# EAGLE library part 4VLX60FF1148 (library xilinx_spartan3_virtex4_and_5)
Xilinx FPGA
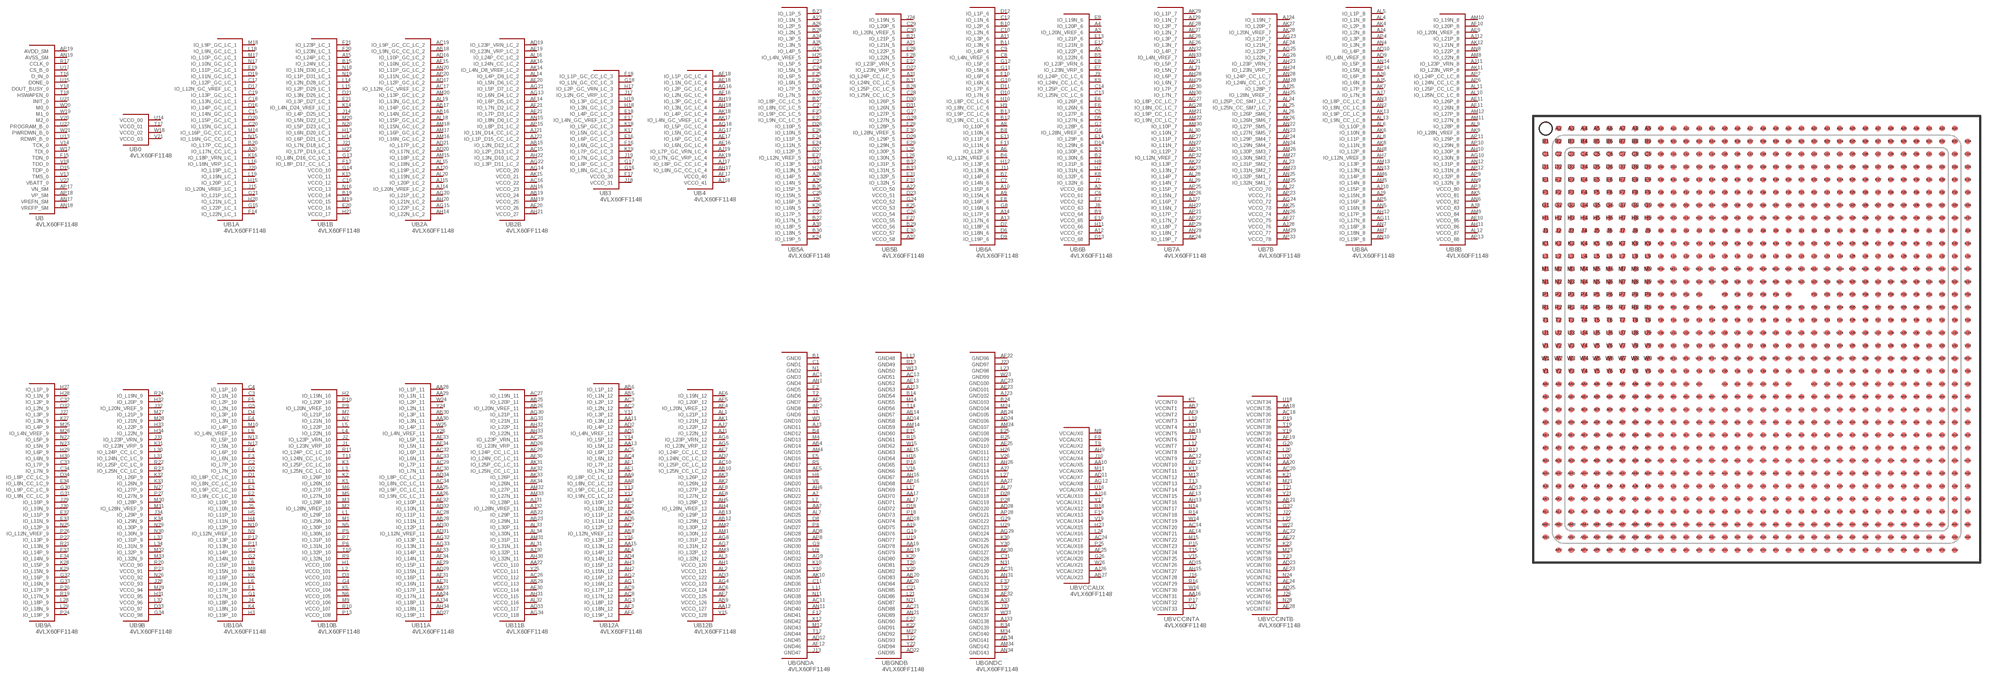
[diagram p81: symbol with the pads of FF1148; footprint FF1148]

Designator prefix U; gates B=4VLX60FF1148_ B0=4VLX60FF1148_0 B1A=4VLX60FF1148_1A B1B=4VLX60FF1148_1B B2A=4VLX60FF1148_2A B2B=4VLX60FF1148_2B B3=4VLX60FF1148_3 B4=4VLX60FF1148_4 B5A=4VLX60FF1148_5A B5B=4VLX60FF1148_5B B6A=4VLX60FF1148_6A B6B=4VLX60FF1148_6B B7A=4VLX60FF1148_7A B7B=4VLX60FF1148_7B B8A=4VLX60FF1148_8A B8B=4VLX60FF1148_8B B9A=4VLX60FF1148_9A B9B=4VLX60FF1148_9B B10A=4VLX60FF1148_10A B10B=4VLX60FF1148_10B B11A=4VLX60FF1148_11A B11B=4VLX60FF1148_11B B12A=4VLX60FF1148_12A B12B=4VLX60FF1148_12B BGNDA=4VLX60FF1148_GNDA BGNDB=4VLX60FF1148_GNDB BGNDC=4VLX60FF1148_GNDC BVCCAUX=4VLX60FF1148_VCCAUX BVCCINTA=4VLX60FF1148_VCCINTA BVCCINTB=4VLX60FF1148_VCCINTB

## 4VLX60FF1148  [FF1148]
A2  B6B:VCCO_60  pas
A3  B6B:IO_L20N_VREF_6
A4  B6B:IO_L20P_6
A5  B6B:IO_L22P_6
A6  B6A:IO_L12P_6
A7  BGNDA:GND22  pas
A8  B6A:IO_L10P_6
A9  B6A:IO_L15N_6
A10  B6A:IO_L15P_6
A11  B6A:IO_L3P_6
A12  B6B:VCCO_67  pas
A13  B6A:IO_L17N_6
A14  B6A:IO_L17P_6
A15  B1B:IO_L24P_LC_1
A19  BGNDB:GND75  pas
A20  B1A:IO_L17N_CC_LC_1
A21  B5B:IO_L21N_5
A22  B5B:VCCO_50  pas
A23  B5A:IO_L1N_5
A24  B5A:IO_L3P_5
A25  B5A:IO_L3N_5
A26  B5A:IO_L2P_5
A27  BGNDC:GND114  pas
A28  B5A:IO_L14P_5
A29  B5A:IO_L14N_5
A30  B5A:IO_L18P_5
A31  B5B:IO_L24P_CC_LC_5
A32  B5B:VCCO_58  pas
A33  BGNDC:GND135  pas
AA7  BGNDA:GND24  pas
AA8  B12A:IO_L8N_CC_LC_12
AA9  B12A:IO_L8P_CC_LC_12
AA10  BVCCAUX:VCCAUX5  pas
AA11  B12A:IO_L3N_12
AA12  B12B:VCCO_127  pas
AA13  B12A:IO_L5N_12
AA15  B12A:IO_L13N_12
AA16  BVCCINTA:VCCINT31  pas
AA17  BGNDB:GND70  pas
AA18  BVCCINTB:VCCINT35  pas
AA19  BGNDB:GND78  pas
AA20  BVCCINTB:VCCINT44  pas
AA22  B11B:VCCO_110  pas
AA23  B11A:IO_L17P_11
AA24  B11A:IO_L17N_11
AA25  B11A:IO_L9P_CC_LC_11
AA26  B11A:IO_L9N_CC_LC_11
AA27  BGNDC:GND116  pas
AA28  B11A:IO_L1P_11
AA29  B11A:IO_L1N_11
AA30  B11A:IO_L3N_11
AB4  BGNDA:GND14  pas
AB5  B12A:IO_L1N_12
AB6  B12A:IO_L1P_12
AB7  BVCCINTA:VCCINT1  pas
AB8  B12A:IO_L12N_VREF_12
AB9  B12B:VCCO_126  pas
AB10  B12B:IO_L25N_CC_LC_12
AB11  BVCCINTA:VCCINT5  pas
AB12  B12B:IO_L29N_12
AB13  B12B:IO_L29P_12
AB14  BGNDB:GND57  pas
AB15  B2B:IO_L2N_D12_LC_2
AB16  B2A:IO_L14N_GC_LC_2
AB17  B2A:IO_L14P_GC_LC_2
AB18  B2A:IO_L9N_GC_CC_LC_2
AB19  B2B:VCCO_24  pas
AB20  BGNDB:GND83  pas
AB21  BVCCINTB:VCCINT50  pas
AB22  B11B:IO_L29P_11
AB23  B11B:IO_L29N_11
AB24  BGNDC:GND105  pas
AB25  B11B:IO_L20P_11
AB26  B11B:IO_L20N_VREF_11
AB27  BVCCAUX:VCCAUX23  pas
AB28  B11A:IO_L11N_11
AB29  B11B:VCCO_113  pas
AB30  B11A:IO_L3P_11
AB34  BGNDC:GND141  pas
AC1  BGNDA:GND3  pas
AC2  B12A:IO_L2N_12
AC3  B12A:IO_L2P_12
AC4  B12A:IO_L6N_12
AC5  B12A:IO_L6P_12
AC6  B12B:VCCO_124  pas
AC7  B12A:IO_L12P_12
AC8  B12A:IO_L17N_12
AC9  B12A:IO_L17P_12
AC10  B12B:IO_L25P_CC_LC_12
AC11  BGNDA:GND39  pas
AC12  BVCCINTA:VCCINT9  pas
AC13  BGNDB:GND51  pas
AC14  BVCCINTA:VCCINT20  pas
AC15  B2B:IO_L2P_D13_LC_2
AC16  B2B:VCCO_22  pas
AC17  B2A:IO_L12N_GC_VREF_LC_2
AC18  BVCCINTB:VCCINT36  pas
AC19  B2A:IO_L9P_GC_CC_LC_2
AC20  BVCCINTB:VCCINT45  pas
AC21  BGNDB:GND88  pas
AC22  BVCCINTB:VCCINT55  pas
AC23  BGNDC:GND100  pas
AC24  BVCCAUX:VCCAUX17  pas
AC25  B11B:IO_L23P_VRN_11
AC26  B11B:VCCO_112  pas
AC27  B11B:IO_L19N_11
AC28  B11A:IO_L11P_11
AC29  B11A:IO_L7P_11
AC30  B11A:IO_L7N_11
AC31  BGNDC:GND130  pas
AC32  B11A:IO_L6P_11
AC33  B11A:IO_L6N_11
AC34  B11A:IO_L8N_CC_LC_11
AD1  B12A:IO_L4N_VREF_12
AD2  B12A:IO_L4P_12
AD3  B12B:VCCO_122  pas
AD4  B12A:IO_L14N_12
AD5  B12A:IO_L11N_12
AD6  B12A:IO_L11P_12
AD7  B12B:IO_L24N_CC_LC_12
AD8  BGNDA:GND28  pas
AD9  B8A:IO_L4N_VREF_8
AD10  B8A:IO_L4P_8
AD11  BVCCAUX:VCCAUX7  pas
AD12  BGNDA:GND45  pas
AD13  BVCCINTA:VCCINT14  pas
AD14  BGNDB:GND58  pas
AD15  BVCCINTA:VCCINT26  pas
AD16  B2A:IO_L10P_GC_LC_2
AD17  B2A:IO_L12P_GC_LC_2
AD18  BGNDB:GND74  pas
AD19  B2B:IO_L23P_VRN_LC_2
AD20  B2A:IO_L17N_LC_2
AD21  B2A:IO_L17P_LC_2
AD22  BGNDB:GND95  pas
AD23  BVCCINTB:VCCINT60  pas
AD24  BGNDC:GND106  pas
AD25  BVCCINTB:VCCINT64  pas
AD26  B11B:IO_L23N_VRP_11
AD27  B11A:IO_L19P_11
AD28  BGNDC:GND120  pas
AD29  B11A:IO_L15N_11
AD30  B11A:IO_L12P_11
AD31  B11A:IO_L12N_VREF_11
AD32  B11A:IO_L10N_11
AD33  B11B:VCCO_117  pas
AD34  B11A:IO_L8P_CC_LC_11
AE1  B12A:IO_L7N_12
AE2  B12A:IO_L10N_12
AE3  B12A:IO_L10P_12
AE4  B12A:IO_L14P_12
AE5  BGNDA:GND18  pas
AE6  B12B:IO_L19N_12
AE7  B12B:IO_L24P_CC_LC_12
AE8  B12B:IO_L27N_12
AE9  B8B:IO_L20N_VREF_8
AE10  B8B:VCCO_85  pas
AE11  B8B:IO_L26P_8
AE12  BVCCINTA:VCCINT10  pas
AE13  BGNDB:GND52  pas
AE14  BVCCINTA:VCCINT21  pas
AE15  BGNDB:GND63  pas
AE16  B4:IO_L6N_GC_LC_4
AE17  B4:IO_L6P_GC_LC_4
AE18  B4:IO_L1N_GC_LC_4
AE19  B2B:IO_L23N_VRP_LC_2
AE20  B2B:VCCO_26  pas
AE21  B2B:IO_L7P_D3_LC_2
AE22  BVCCINTB:VCCINT56  pas
AE23  BGNDC:GND101  pas
AE24  BVCCINTB:VCCINT63  pas
AE25  BGNDC:GND110  pas
AE26  B7A:IO_L3N_7
AE27  B7A:IO_L2N_7
AE28  BVCCINTB:VCCINT67  pas
AE29  B11A:IO_L15P_11
AE30  B11B:VCCO_114  pas
AE31  B11A:IO_L16N_11
AE32  B11A:IO_L10P_11
AE33  B11A:IO_L5P_11
AE34  B11A:IO_L5N_11
AF1  B12A:IO_L7P_12
AF2  BGNDA:GND7  pas
AF3  B12A:IO_L18N_12
AF4  B12B:IO_L20N_VREF_12
AF5  B12B:IO_L20P_12
AF6  B12A:IO_L19P_12
AF7  B12B:VCCO_125  pas
AF8  B12B:IO_L27P_12
AF9  BVCCINTA:VCCINT2  pas
AF10  B8B:IO_L20P_8
AF11  B8B:IO_L26N_8
AF12  BGNDA:GND46  pas
AF13  BVCCINTA:VCCINT15  pas
AF14  B2B:IO_L6P_D5_LC_2
AF15  B2A:IO_L10N_GC_LC_2
AF16  B4:IO_L2N_GC_LC_4
AF17  B4:VCCO_40  pas
AF18  B4:IO_L1P_GC_LC_4
AF19  BVCCINTB:VCCINT40  pas
AF20  B2B:IO_L5N_D6_LC_2
AF21  B2B:IO_L7N_D2_LC_2
AF22  BGNDC:GND96  pas
AF23  BVCCINTB:VCCINT61  pas
AF24  B7B:IO_L21N_7
AF25  BVCCAUX:VCCAUX19  pas
AF26  B7A:IO_L3P_7
AF27  B7B:VCCO_75  pas
AF28  B7A:IO_L2P_7
AF29  B11B:IO_L24P_CC_LC_11
AF30  B11B:IO_L24N_CC_LC_11
AF31  B11A:IO_L16P_11
AF32  BGNDC:GND134  pas
AF33  B11A:IO_L14P_11
AF34  B11A:IO_L14N_11
AG1  B12A:IO_L16N_12
AG2  B12A:IO_L16P_12
AG3  B12A:IO_L18P_12
AG4  B12B:VCCO_123  pas
AG5  B12B:IO_L23N_VRP_12
AG6  B12B:IO_L23P_VRN_12
AG7  B12B:IO_L31N_12
AG8  B12B:IO_L31P_12
AG9  BGNDA:GND32  pas
AG10  B8B:IO_L30N_8
AG11  B8A:IO_L17N_8
AG12  BVCCAUX:VCCAUX8  pas
AG13  B2B:IO_L6N_D4_LC_2
AG14  B2B:VCCO_20  pas
AG15  B2A:IO_L22P_LC_2
AG16  B4:IO_L2P_GC_LC_4
AG17  B4:IO_L5N_GC_LC_4
AG18  B4:IO_L5P_GC_LC_4
AG19  BGNDB:GND79  pas
AG20  B2A:IO_L21P_LC_2
AG21  B2B:IO_L5P_D7_LC_2
AG22  B2B:IO_L3P_D11_LC_2
AG23  B7B:IO_L21P_7
AG24  B7B:VCCO_72  pas
AG25  B7B:IO_L22P_7
AG26  B7B:IO_L22N_7
AG27  B7A:IO_L8P_CC_LC_7
AG28  B7A:IO_L8N_CC_LC_7
AG29  BGNDC:GND124  pas
AG30  B11B:IO_L21P_11
AG31  B11B:IO_L21N_11
AG32  B11A:IO_L13P_11
AG33  B11A:IO_L13N_11
AG34  B11B:VCCO_118  pas
AH1  B12B:VCCO_120  pas
AH2  B12A:IO_L15N_12
AH3  B12A:IO_L15P_12
AH4  B12B:IO_L28N_VREF_12
AH5  B12B:IO_L28P_12
AH6  BGNDA:GND21  pas
AH7  B8A:IO_L12N_VREF_8
AH8  B8A:IO_L12P_8
AH9  BVCCAUX:VCCAUX3  pas
AH10  B8B:IO_L30P_8
AH11  B8B:VCCO_86  pas
AH12  B8A:IO_L17P_8
AH13  BVCCINTA:VCCINT16  pas
AH14  B2A:IO_L22N_LC_2
AH15  BVCCINTA:VCCINT27  pas
AH16  BGNDB:GND67  pas
AH17  B4:IO_L8N_GC_CC_LC_4
AH18  B4:IO_L3N_GC_LC_4
AH19  B4:IO_L3P_GC_LC_4
AH20  B2A:IO_L21N_LC_2
AH21  B2B:VCCO_27  pas
AH22  B2B:IO_L3N_D10_LC_2
AH23  B7B:IO_L23P_VRN_7
AH24  B7B:IO_L23N_VRP_7
AH25  B7B:IO_L28N_VREF_7
AH26  BGNDC:GND113  pas
AH27  B7A:IO_L16N_7
AH28  B7A:IO_L6P_7
AH29  B7A:IO_L6N_7
AH30  B11B:IO_L32N_11
AH31  B11B:VCCO_115  pas
AH32  B11B:IO_L22P_11
AH33  B11B:IO_L22N_11
AH34  B11A:IO_L18N_11
AJ1  B12B:IO_L22N_12
AJ2  B12B:IO_L22P_12
AJ3  BGNDA:GND11  pas
AJ4  B8A:IO_L2N_8
AJ5  B8A:IO_L6N_8
AJ6  B8A:IO_L6P_8
AJ7  B8A:IO_L7N_8
AJ8  B8B:VCCO_83  pas
AJ9  B8A:IO_L15N_8
AJ10  B8A:IO_L15P_8
AJ11  B8B:IO_L23P_VRN_8
AJ12  B8B:IO_L21P_8
AJ13  BGNDB:GND53  pas
AJ14  B2A:IO_L20N_VREF_LC_2
AJ15  B2A:IO_L20P_LC_2
AJ16  BVCCAUX:VCCAUX10  pas
AJ17  B4:IO_L8P_GC_CC_LC_4
AJ18  B4:VCCO_41  pas
AJ19  B4:IO_L7P_GC_VRN_LC_4
AJ20  B2A:IO_L19P_LC_2
AJ21  B2B:IO_L1N_D14_CC_LC_2
AJ22  B2B:IO_L1P_D15_CC_LC_2
AJ23  BGNDC:GND102  pas
AJ24  B7B:IO_L19N_7
AJ25  B7B:IO_L28P_7
AJ26  BVCCAUX:VCCAUX22  pas
AJ27  B7A:IO_L16P_7
AJ28  B7B:VCCO_76  pas
AJ29  B7A:IO_L1N_7
AJ30  B11B:IO_L32P_11
AJ31  B11B:IO_L28P_11
AJ32  B11B:IO_L28N_VREF_11
AJ33  BGNDC:GND138  pas
AJ34  B11A:IO_L18P_11
AK1  B12B:IO_L21N_12
AK2  B12B:IO_L26N_12
AK3  B12B:IO_L26P_12
AK4  B8A:IO_L2P_8
AK5  B8B:VCCO_81  pas
AK6  B8A:IO_L10N_8
AK7  B8A:IO_L7P_8
AK8  B8A:IO_L11N_8
AK9  B8B:IO_L28N_VREF_8
AK10  BGNDA:GND35  pas
AK11  B8B:IO_L23N_VRP_8
AK12  B8B:IO_L21N_8
AK13  B8A:IO_L9P_CC_LC_8
AK14  B2B:IO_L4N_D8_VREF_LC_2
AK15  B2B:VCCO_21  pas
AK16  B2B:IO_L24N_CC_LC_2
AK17  B4:IO_L4N_GC_VREF_LC_4
AK18  B4:IO_L4P_GC_LC_4
AK19  B4:IO_L7N_GC_VRP_LC_4
AK20  BGNDB:GND84  pas
AK21  B7A:IO_L5P_7
AK22  B7A:IO_L13P_7
AK23  B7A:IO_L13N_7
AK24  B7A:IO_L19P_7
AK25  B7B:VCCO_73  pas
AK26  B7B:IO_L26N_SM6_7
AK27  B7B:IO_L20P_7
AK28  B7B:IO_L20N_VREF_7
AK29  B7A:IO_L1P_7
AK30  BGNDC:GND127  pas
AK31  B11B:IO_L25P_CC_LC_11
AK32  B11B:IO_L25N_CC_LC_11
AK33  B11B:IO_L26P_11
AK34  B11B:IO_L26N_11
AL1  B12B:IO_L21P_12
AL2  B12B:VCCO_121  pas
AL3  B12B:IO_L32N_12
AL4  B8A:IO_L1N_8
AL5  B8A:IO_L1P_8
AL6  B8A:IO_L10P_8
AL7  BGNDA:GND25  pas
AL8  B8A:IO_L11P_8
AL9  B8B:IO_L28P_8
AL10  B8B:IO_L25N_CC_LC_8
AL11  B8B:IO_L25P_CC_LC_8
AL12  B8B:VCCO_87  pas
AL13  B8A:IO_L9N_CC_LC_8
AL14  B2B:IO_L4P_D9_LC_2
AL15  B2A:IO_L18N_LC_2
AL16  B2B:IO_L24P_CC_LC_2
AL17  BGNDB:GND71  pas
AL18  B2A:IO_L15P_GC_LC_2
AL19  B2A:IO_L13N_GC_LC_2
AL20  B2A:IO_L19N_LC_2
AL21  B7A:IO_L5N_7
AL22  B7B:VCCO_70  pas
AL23  B7B:IO_L31P_SM2_7
AL24  B7B:IO_L25P_CC_SM7_LC_7
AL25  B7B:IO_L25N_CC_SM7_LC_7
AL26  B7B:IO_L26P_SM6_7
AL27  BGNDC:GND117  pas
AL28  B7A:IO_L14P_7
AL29  B7A:IO_L14N_7
AL30  B7A:IO_L10N_7
AL31  B11B:IO_L31N_11
AL32  B11B:VCCO_116  pas
AL33  B11B:IO_L30P_11
AL34  B11B:IO_L30N_11
AM1  B12B:IO_L30N_12
AM2  B12B:IO_L30P_12
AM3  B12B:IO_L32P_12
AM4  BGNDA:GND15  pas
AM5  B8A:IO_L14N_8
AM6  B8A:IO_L14P_8
AM7  B8A:IO_L18N_8
AM8  B8B:IO_L22N_8
AM9  B8B:VCCO_84  pas
AM10  B8B:IO_L19N_8
AM11  B8B:IO_L27N_8
AM12  B8B:IO_L27P_8
AM13  B8A:IO_L13P_8
AM14  BGNDB:GND59  pas
AM15  B2A:IO_L18P_LC_2
AM16  B2A:IO_L16N_GC_LC_2
AM17  B2A:IO_L16P_GC_LC_2
AM18  B2A:IO_L15N_GC_LC_2
AM19  B2B:VCCO_25  pas
AM20  B2A:IO_L13P_GC_LC_2
AM21  B7A:IO_L9P_CC_LC_7
AM22  B7A:IO_L9N_CC_LC_7
AM23  B7B:IO_L31N_SM2_7
AM24  BGNDC:GND107  pas
AM25  B7B:IO_L32N_SM1_7
AM26  B7B:IO_L30P_SM3_7
AM27  B7B:IO_L30N_SM3_7
AM28  B7B:IO_L24N_CC_LC_7
AM29  B7B:VCCO_77  pas
AM30  B7A:IO_L10P_7
AM31  B11B:IO_L31P_11
AM32  B11B:IO_L27P_11
AM33  B11B:IO_L27N_11
AM34  BGNDC:GND142  pas
AN1  BGNDA:GND4  pas
AN2  B8A:IO_L8N_CC_LC_8
AN3  B8A:IO_L8P_CC_LC_8
AN4  B8A:IO_L3N_8
AN5  B8A:IO_L16N_8
AN6  B8B:VCCO_82  pas
AN7  B8A:IO_L18P_8
AN8  B8B:IO_L22P_8
AN9  B8B:IO_L32N_8
AN10  B8A:IO_L19P_8
AN11  BGNDA:GND40  pas
AN12  B8B:IO_L31P_8
AN13  B8A:IO_L13N_8
AN14  B8A:IO_L5P_8
AN15  B2B:IO_L8N_D0_LC_2
AN16  B2B:VCCO_23  pas
AN17  B:VREFN_SM
AN18  B:VREFP_SM
AN19  B:AVSS_SM
AN20  B2A:IO_L11P_GC_LC_2
AN21  BGNDB:GND89  pas
AN22  B7B:IO_L27P_SM5_7
AN23  B7B:IO_L27N_SM5_7
AN24  B7B:IO_L29N_SM4_7
AN25  B7B:IO_L32P_SM1_7
AN26  B7B:VCCO_74  pas
AN27  B7A:IO_L11N_7
AN28  B7B:IO_L24P_CC_LC_7
AN29  B7A:IO_L18N_7
AN30  B7A:IO_L7N_7
AN31  BGNDC:GND131  pas
AN32  B7A:IO_L4P_7
AN33  B7A:IO_L4N_VREF_7
AN34  BGNDC:GND143  pas
AP2  BGNDA:GND8  pas
AP3  B8B:VCCO_80  pas
AP4  B8A:IO_L3P_8
AP5  B8A:IO_L16P_8
AP6  B8B:IO_L24N_CC_LC_8
AP7  B8B:IO_L24P_CC_LC_8
AP8  BGNDA:GND29  pas
AP9  B8B:IO_L32P_8
AP10  B8B:IO_L29N_8
AP11  B8B:IO_L29P_8
AP12  B8B:IO_L31N_8
AP13  B8B:VCCO_88  pas
AP14  B8A:IO_L5N_8
AP15  B2B:IO_L8P_D1_LC_2
AP16  BGNDB:GND68  pas
AP17  B:VN_SM
AP18  B:VP_SM
AP19  B:AVDD_SM
AP20  B2A:IO_L11N_GC_LC_2
AP21  B7A:IO_L17P_7
AP22  B7A:IO_L17N_7
AP23  B7B:VCCO_71  pas
AP24  B7B:IO_L29P_SM4_7
AP25  B7A:IO_L15P_7
AP26  B7A:IO_L15N_7
AP27  B7A:IO_L11P_7
AP28  BGNDC:GND121  pas
AP29  B7A:IO_L18P_7
AP30  B7A:IO_L7P_7
AP31  B7A:IO_L12P_7
AP32  B7A:IO_L12N_VREF_7
AP33  B7B:VCCO_78  pas
B1  BGNDA:GND0  pas
B2  B6B:IO_L30N_6
B3  B6B:IO_L30P_6
B4  BGNDA:GND12  pas
B5  B6B:IO_L22N_6
B6  B6A:IO_L12N_VREF_6
B7  B6A:IO_L14P_6
B8  B6A:IO_L10N_6
B9  B6B:VCCO_64  pas
B10  B6A:IO_L2P_6
B11  B6A:IO_L3N_6
B12  B6A:IO_L9N_CC_LC_6
B13  B6A:IO_L9P_CC_LC_6
B14  BGNDB:GND54  pas
B15  B1B:IO_L24N_LC_1
B19  B1B:VCCO_14  pas
B20  B1A:IO_L17P_CC_LC_1
B21  B5B:IO_L21P_5
B22  B5A:IO_L17N_5
B23  B5A:IO_L1P_5
B24  BGNDC:GND103  pas
B25  B5A:IO_L15P_5
B26  B5A:IO_L2N_5
B27  B5A:IO_L8P_CC_LC_5
B28  B5B:IO_L25P_CC_LC_5
B29  B5B:VCCO_56  pas
B30  B5A:IO_L18N_5
B31  B5B:IO_L24N_CC_LC_5
B32  B5B:IO_L31P_5
B33  B5B:IO_L31N_5
B34  BGNDC:GND139  pas
C1  BGNDA:GND1  pas
C2  B10A:IO_L7P_10
C3  B10A:IO_L1N_10
C4  B10A:IO_L1P_10
C5  B6B:IO_L27P_6
C6  B6B:VCCO_61  pas
C7  B6A:IO_L14N_6
C8  B6A:IO_L4N_VREF_6
C9  B6A:IO_L4P_6
C10  B6A:IO_L2N_6
C11  BGNDA:GND36  pas
C12  B6A:IO_L1N_6
C13  B6B:IO_L25N_CC_LC_6
C14  B6B:IO_L25P_CC_LC_6
C15  B1A:IO_L14N_GC_LC_1
C16  B1B:VCCO_12  pas
C17  B1A:IO_L12P_GC_LC_1
C18  B1A:IO_L13N_GC_LC_1
C19  B1A:IO_L13P_GC_LC_1
C20  B1A:IO_L15N_GC_LC_1
C21  BGNDB:GND85  pas
C22  B5A:IO_L17P_5
C23  B5A:IO_L5P_5
C24  B5A:IO_L5N_5
C25  B5A:IO_L15N_5
C26  B5B:VCCO_54  pas
C27  B5A:IO_L8N_CC_LC_5
C28  B5B:IO_L25N_CC_LC_5
C29  B5B:IO_L20P_5
C30  B5B:IO_L20N_VREF_5
C31  BGNDC:GND128  pas
C32  B9A:IO_L2P_9
C33  B9A:IO_L7P_9
C34  B9A:IO_L7N_9
D1  B10A:IO_L8P_CC_LC_10
D2  B10A:IO_L7N_10
D3  B10B:VCCO_102  pas
D4  B10A:IO_L3P_10
D5  B6B:IO_L27N_6
D6  B6A:IO_L18N_6
D7  B6A:IO_L18P_6
D8  BGNDA:GND26  pas
D9  B6A:IO_L19P_6
D10  B6A:IO_L7N_6
D11  B6A:IO_L7P_6
D12  B6A:IO_L1P_6
D13  B6B:VCCO_68  pas
D14  B6B:IO_L29N_6
D15  B:TDP_0
D16  B1A:IO_L14P_GC_LC_1
D17  B1A:IO_L12N_GC_VREF_LC_1
D18  BGNDB:GND72  pas
D19  B1A:IO_L11N_GC_LC_1
D20  B1A:IO_L15P_GC_LC_1
D21  B1B:IO_L3N_D26_LC_1
D22  B5B:IO_L23N_VRP_5
D23  B5B:VCCO_51  pas
D24  B5A:IO_L7P_5
D25  B5A:IO_L7N_5
D26  B5A:IO_L10P_5
D27  B5A:IO_L12P_5
D28  BGNDC:GND118  pas
D29  B5B:IO_L29P_5
D30  B5B:IO_L26P_5
D31  B5B:IO_L26N_5
D32  B9A:IO_L2N_9
D33  B9B:VCCO_97  pas
D34  B9A:IO_L8P_CC_LC_9
E1  B10A:IO_L8N_CC_LC_10
E2  B10A:IO_L9N_CC_LC_10
E3  B10A:IO_L9P_CC_LC_10
E4  B10A:IO_L3N_10
E5  BGNDA:GND16  pas
E6  B6B:IO_L26P_6
E7  B6B:IO_L23N_VRP_6
E8  B6B:IO_L23P_VRN_6
E9  B6B:IO_L19N_6
E10  B6B:VCCO_65  pas
E11  B6A:IO_L11P_6
E12  B6B:IO_L21N_6
E13  B6B:IO_L21P_6
E14  B6B:IO_L29P_6
E15  BGNDB:GND60  pas
E16  B3:IO_L6P_GC_LC_3
E17  B3:IO_L4N_GC_VREF_LC_3
E18  B3:IO_L4P_GC_LC_3
E19  B1A:IO_L11P_GC_LC_1
E20  B1B:VCCO_16  pas
E21  B1B:IO_L3P_D27_LC_1
E22  B5B:IO_L23P_VRN_5
E23  B5A:IO_L9N_CC_LC_5
E24  B5A:IO_L11N_5
E25  BGNDC:GND108  pas
E26  B5A:IO_L10N_5
E27  B5A:IO_L12N_VREF_5
E28  B5B:IO_L22P_5
E29  B5B:IO_L29N_5
E30  B5B:VCCO_57  pas
E31  B5B:IO_L32P_5
E32  B9A:IO_L11P_9
E33  B9A:IO_L11N_9
E34  B9A:IO_L8N_CC_LC_9
F1  B10A:IO_L17P_10
F2  BGNDA:GND5  pas
F3  B10A:IO_L6N_10
F4  B10A:IO_L6P_10
F5  B10A:IO_L2P_10
F6  B6B:IO_L26N_6
F7  B6B:VCCO_62  pas
F8  B6A:IO_L16P_6
F9  BVCCAUX:VCCAUX1  pas
F10  B6A:IO_L6P_6
F11  B6A:IO_L11N_6
F12  BGNDA:GND41  pas
F13  B1B:IO_L8P_D17_CC_LC_1
F14  B1A:IO_L22N_LC_1
F15  B:TDN_0
F16  B3:IO_L6N_GC_LC_3
F17  B3:VCCO_30  pas
F18  B3:IO_L1P_GC_CC_LC_3
F19  BVCCAUX:VCCAUX13  pas
F20  B1B:IO_L23N_LC_1
F21  B1B:IO_L23P_LC_1
F22  BGNDB:GND90  pas
F23  B5A:IO_L9P_CC_LC_5
F24  B5A:IO_L11P_5
F25  B5A:IO_L6P_5
F26  B5A:IO_L6N_5
F27  B5B:VCCO_55  pas
F28  B5B:IO_L22N_5
F29  B5B:IO_L28P_5
F30  B5B:IO_L28N_VREF_5
F31  B5B:IO_L32N_5
F32  BGNDC:GND132  pas
F33  B9A:IO_L14P_9
F34  B9A:IO_L14N_9
G1  B10A:IO_L17N_10
G2  B10A:IO_L14N_10
G3  B10A:IO_L14P_10
G4  B10B:VCCO_103  pas
G5  B10A:IO_L2N_10
G6  B6B:IO_L28N_VREF_6
G7  B6B:IO_L28P_6
G8  B6A:IO_L16N_6
G9  BGNDA:GND30  pas
G10  B6A:IO_L6N_6
G11  B6A:IO_L5N_6
G12  B6A:IO_L5P_6
G13  B1B:IO_L8N_D16_CC_LC_1
G14  B1B:VCCO_10  pas
G15  B1A:IO_L22P_LC_1
G16  B3:IO_L8N_GC_LC_3
G17  B3:IO_L8P_GC_LC_3
G18  B3:IO_L1N_GC_CC_LC_3
G19  BGNDB:GND76  pas
G20  BVCCINTB:VCCINT41  pas
G21  B1A:IO_L21P_LC_1
G22  BVCCINTB:VCCINT51  pas
G23  B5A:IO_L13P_5
G24  B5B:VCCO_52  pas
G25  B5A:IO_L4P_5
G26  BVCCAUX:VCCAUX20  pas
G27  B5B:IO_L27P_5
G28  B5B:IO_L27N_5
G29  BGNDC:GND122  pas
G30  B9A:IO_L9P_CC_LC_9
G31  B9A:IO_L9N_CC_LC_9
G32  B9A:IO_L16P_9
G33  B9A:IO_L16N_9
G34  B9B:VCCO_98  pas
H1  B10B:VCCO_100  pas
H2  B10B:IO_L19N_10
H3  B10A:IO_L19P_10
H4  B10A:IO_L11N_10
H5  B10A:IO_L11P_10
H6  BGNDA:GND19  pas
H7  B6B:IO_L31N_6
H8  B6B:IO_L31P_6
H9  B6A:IO_L8N_CC_LC_6
H10  B6A:IO_L8P_CC_LC_6
H11  B6B:VCCO_66  pas
H12  B6A:IO_L13P_6
H13  B1B:IO_L6N_D20_LC_1
H14  B1B:IO_L6P_D21_LC_1
H15  B1A:IO_L20P_LC_1
H16  BGNDB:GND64  pas
H17  B3:IO_L2P_GC_VRN_LC_3
H18  B3:IO_L3N_GC_LC_3
H19  B3:IO_L3P_GC_LC_3
H20  B1A:IO_L21N_LC_1
H21  B1B:VCCO_17  pas
H22  B1B:IO_L7P_D19_LC_1
H23  BVCCAUX:VCCAUX15  pas
H24  B5A:IO_L13N_5
H25  B5A:IO_L4N_VREF_5
H26  BGNDC:GND111  pas
H27  B9A:IO_L1P_9
H28  B9A:IO_L1N_9
H29  B9A:IO_L6P_9
H30  B9A:IO_L6N_9
H31  B9B:VCCO_95  pas
H32  B9B:IO_L20P_9
H33  B9B:IO_L22P_9
H34  B9B:IO_L22N_9
J1  B10B:IO_L23N_VRP_10
J2  B10B:IO_L23P_VRN_10
J3  BGNDA:GND9  pas
J4  B10A:IO_L18P_10
J5  B10A:IO_L10N_10
J6  B10A:IO_L10P_10
J7  B6B:IO_L32N_6
J8  B6B:VCCO_63  pas
J9  B6B:IO_L24P_CC_LC_6
J10  BVCCAUX:VCCAUX4  pas
J11  B6A:IO_L13N_6
J12  BVCCINTA:VCCINT6  pas
J13  BGNDA:GND47  pas
J14  B1B:IO_L4P_D25_LC_1
J15  B1A:IO_L20N_VREF_LC_1
J16  BVCCINTA:VCCINT28  pas
J17  B3:IO_L2N_GC_VRP_LC_3
J18  B3:VCCO_31  pas
J19  B3:IO_L7N_GC_LC_3
J20  B1A:IO_L19P_LC_1
J21  B1B:IO_L7N_D18_LC_1
J22  BVCCINTB:VCCINT52  pas
J23  BGNDC:GND97  pas
J24  B5B:IO_L19N_5
J25  B5A:IO_L16P_5
J26  BVCCINTB:VCCINT65  pas
J27  B9A:IO_L3P_9
J28  B9B:VCCO_93  pas
J29  B9A:IO_L10P_9
J30  B9A:IO_L10N_9
J31  B9B:IO_L23P_VRN_9
J32  B9B:IO_L20N_VREF_9
J33  BGNDC:GND136  pas
J34  B9B:IO_L29P_9
K1  B10B:IO_L26N_10
K2  B10B:IO_L26P_10
K3  B10B:IO_L25P_CC_LC_10
K4  B10A:IO_L18N_10
K5  B10B:VCCO_104  pas
K6  B10A:IO_L16P_10
K7  BVCCINTA:VCCINT0  pas
K8  B6B:IO_L32P_6
K9  B6B:IO_L24N_CC_LC_6
K10  BGNDA:GND33  pas
K11  BVCCINTA:VCCINT4  pas
K12  BGNDA:GND42  pas
K13  BVCCINTA:VCCINT11  pas
K14  B1B:IO_L4N_D24_VREF_LC_1
K15  B1B:VCCO_11  pas
K16  B1A:IO_L18P_VRN_LC_1
K17  B3:IO_L5N_GC_LC_3
K18  B3:IO_L5P_GC_LC_3
K19  B3:IO_L7P_GC_LC_3
K20  BGNDB:GND80  pas
K21  BVCCINTB:VCCINT46  pas
K22  BGNDB:GND91  pas
K23  BVCCINTB:VCCINT57  pas
K24  B5A:IO_L19P_5
K25  B5B:VCCO_53  pas
K26  B5A:IO_L16N_5
K27  B9A:IO_L3N_9
K28  B9A:IO_L15P_9
K29  B9A:IO_L15N_9
K30  BGNDC:GND125  pas
K31  B9B:IO_L23N_VRP_9
K32  B9B:IO_L26P_9
K33  B9B:IO_L26N_9
K34  B9B:IO_L29N_9
L1  B10B:IO_L29P_10
L2  B10B:VCCO_101  pas
L3  B10B:IO_L25N_CC_LC_10
L4  B10B:IO_L22N_10
L5  B10B:IO_L22P_10
L6  B10A:IO_L16N_10
L7  BGNDA:GND23  pas
L8  B10A:IO_L15P_10
L9  B10A:IO_L4N_VREF_10
L10  BVCCINTA:VCCINT3  pas
L11  BGNDA:GND37  pas
L12  BVCCINTA:VCCINT7  pas
L13  BGNDB:GND48  pas
L14  B1B:IO_L2N_D28_LC_1
L15  B1B:IO_L2P_D29_LC_1
L16  B1A:IO_L18N_VRP_LC_1
L17  BGNDB:GND69  pas
L18  B1A:IO_L9N_GC_LC_1
L19  B1A:IO_L19N_LC_1
L20  BVCCINTB:VCCINT42  pas
L21  BGNDB:GND86  pas
L22  BVCCINTB:VCCINT53  pas
L23  BGNDC:GND98  pas
L24  BVCCAUX:VCCAUX16  pas
L25  B5B:IO_L30P_5
L26  B5B:IO_L30N_5
L27  BGNDC:GND115  pas
L28  B9A:IO_L18P_9
L29  B9A:IO_L18N_9
L30  B9B:IO_L24P_CC_LC_9
L31  B9B:IO_L24N_CC_LC_9
L32  B9B:VCCO_96  pas
L33  B9B:IO_L31P_9
L34  B9B:IO_L31N_9
M1  B10B:IO_L29N_10
M2  B10B:IO_L28N_VREF_10
M3  B10B:IO_L28P_10
M4  BGNDA:GND13  pas
M5  B10B:IO_L27N_10
M6  B10B:IO_L27P_10
M7  B10B:IO_L21P_10
M8  B10A:IO_L15N_10
M9  B10B:VCCO_106  pas
M10  B10A:IO_L4P_10
M11  BVCCAUX:VCCAUX6  pas
M12  BGNDA:GND43  pas
M13  BVCCINTA:VCCINT12  pas
M14  BGNDB:GND55  pas
M15  BVCCINTA:VCCINT22  pas
M16  B1A:IO_L16P_GC_CC_LC_1
M17  B1A:IO_L10P_GC_LC_1
M18  B1A:IO_L9P_GC_LC_1
M19  B1B:VCCO_15  pas
M20  B1B:IO_L5N_D22_LC_1
M21  BVCCINTB:VCCINT47  pas
M22  BGNDB:GND92  pas
M23  BVCCINTB:VCCINT58  pas
M24  BGNDC:GND104  pas
M25  B9A:IO_L4P_9
M26  B9A:IO_L4N_VREF_9
M27  B9B:IO_L21P_9
M28  B9B:IO_L21N_9
M29  B9B:VCCO_94  pas
M30  B9B:IO_L28P_9
M31  B9B:IO_L28N_VREF_9
M32  B9B:IO_L32P_9
M33  B9B:IO_L32N_9
M34  BGNDC:GND140  pas
N1  BGNDA:GND2  pas
N5  B10B:IO_L30P_10
N6  B10B:VCCO_105  pas
N7  B10B:IO_L21N_10
N8  BVCCAUX:VCCAUX0  pas
N9  B10A:IO_L12N_VREF_10
N10  B10A:IO_L12P_10
N11  BGNDA:GND38  pas
N12  B10A:IO_L5N_10
N13  B10A:IO_L5P_10
N14  BVCCINTA:VCCINT17  pas
N15  B1A:IO_L16N_GC_CC_LC_1
N16  B1B:VCCO_13  pas
N17  B1A:IO_L10N_GC_LC_1
N18  B1B:IO_L1N_D30_LC_1
N19  B1B:IO_L1P_D31_LC_1
N20  B1B:IO_L5P_D23_LC_1
N21  BGNDB:GND87  pas
N22  B9A:IO_L5P_9
N23  B9A:IO_L5N_9
N24  BVCCINTB:VCCINT62  pas
N25  B9A:IO_L12P_9
N26  B9B:VCCO_92  pas
N27  B9B:IO_L27P_9
N28  BVCCINTB:VCCINT66  pas
N29  B9B:IO_L30P_9
N30  B9B:IO_L30N_9
N31  BGNDC:GND129  pas
P5  B10B:IO_L30N_10
P6  B10B:IO_L31N_10
P7  B10B:IO_L31P_10
P8  BGNDA:GND27  pas
P9  B10B:IO_L20N_VREF_10
P10  B10B:IO_L20P_10
P11  B10A:IO_L13N_10
P12  B10A:IO_L13P_10
P13  B10B:VCCO_108  pas
P15  BVCCINTA:VCCINT23  pas
P16  BGNDB:GND65  pas
P17  BVCCINTA:VCCINT32  pas
P18  BGNDB:GND73  pas
P19  BVCCINTB:VCCINT37  pas
P20  B9A:IO_L17P_9
P22  B9A:IO_L13P_9
P23  B9B:VCCO_91  pas
P24  B9A:IO_L19P_9
P25  BVCCAUX:VCCAUX18  pas
P26  B9A:IO_L12N_VREF_9
P27  B9B:IO_L27N_9
P28  BGNDC:GND119  pas
R5  BGNDA:GND17  pas
R9  B10B:IO_L32N_10
R10  B10B:VCCO_107  pas
R11  B10B:IO_L24P_CC_LC_10
R12  BVCCINTA:VCCINT8  pas
R13  BGNDB:GND49  pas
R14  BVCCINTA:VCCINT18  pas
R15  BGNDB:GND61  pas
R16  BVCCINTA:VCCINT29  pas
R17  B:CCLK_0
R18  BVCCAUX:VCCAUX12  pas
R19  B9A:IO_L17N_9
R20  B9B:VCCO_90  pas
R21  B9A:IO_L13N_9
R22  B9B:IO_L25P_CC_LC_9
R23  B9B:IO_L25N_CC_LC_9
R24  B9B:IO_L19N_9
R25  BGNDC:GND109  pas
T2  BGNDA:GND6  pas
T9  BVCCAUX:VCCAUX2  pas
T10  B10B:IO_L32P_10
T11  B10B:IO_L24N_CC_LC_10
T12  BGNDA:GND44  pas
T13  BVCCINTA:VCCINT13  pas
T14  BGNDB:GND56  pas
T15  BVCCINTA:VCCINT24  pas
T16  B:D_IN_0
T17  B0:VCCO_01  pas
T18  B:HSWAPEN_0
T19  BVCCINTB:VCCINT38  pas
T20  BGNDB:GND81  pas
T21  BVCCINTB:VCCINT48  pas
T22  BGNDB:GND93  pas
T32  BGNDC:GND133  pas
U9  BGNDA:GND31  pas
U13  B:RDWR_B_0
U14  B0:VCCO_00  pas
U15  B:DONE_0
U16  BVCCAUX:VCCAUX9  pas
U17  B:CS_B_0
U18  BVCCINTB:VCCINT34  pas
U19  BGNDB:GND77  pas
U20  BVCCINTB:VCCINT43  pas
U21  B:INIT_0
U22  B:PROGRAM_B_0
U29  BGNDC:GND123  pas
V6  BGNDA:GND20  pas
V13  B:TMS_0
V14  B:TCK_0
V15  BVCCINTA:VCCINT25  pas
V16  BGNDB:GND66  pas
V17  BVCCINTA:VCCINT33  pas
V18  B:TDO_0
V19  BVCCAUX:VCCAUX14  pas
V20  B:M2_0
V21  B0:VCCO_03  pas
V22  B:VBATT_0
V26  BGNDC:GND112  pas
W3  BGNDA:GND10  pas
W13  BGNDB:GND50  pas
W14  BVCCINTA:VCCINT19  pas
W15  BGNDB:GND62  pas
W16  BVCCINTA:VCCINT30  pas
W17  B:TDI_0
W18  B0:VCCO_02  pas
W19  B:M1_0
W20  B:M0_0
W21  B:PWRDWN_B_0
W22  BVCCINTB:VCCINT54  pas
W23  BGNDC:GND99  pas
W24  B11A:IO_L2P_11
W25  B11A:IO_L4P_11
W26  BVCCAUX:VCCAUX21  pas
W33  BGNDC:GND137  pas
Y10  BGNDA:GND34  pas
Y11  B12A:IO_L3P_12
Y12  B12A:IO_L9N_CC_LC_12
Y13  B12A:IO_L9P_CC_LC_12
Y14  B12A:IO_L5P_12
Y15  B12B:VCCO_128  pas
Y16  B12A:IO_L13P_12
Y17  BVCCAUX:VCCAUX11  pas
Y18  B:DOUT_BUSY_0
Y19  BVCCINTB:VCCINT39  pas
Y20  BGNDB:GND82  pas
Y21  BVCCINTB:VCCINT49  pas
Y22  BGNDB:GND94  pas
Y23  BVCCINTB:VCCINT59  pas
Y24  B11A:IO_L2N_11
Y25  B11B:VCCO_111  pas
Y26  B11A:IO_L4N_VREF_11
Y30  BGNDC:GND126  pas

## Footprint FF1148 (pad centres in mm)
smd 0.45 x 0.45: A2 -15.5,16.5; A3 -14.5,16.5; A4 -13.5,16.5; A5 -12.5,16.5; A6 -11.5,16.5; A7 -10.5,16.5; A8 -9.5,16.5; A9 -8.5,16.5; A10 -7.5,16.5; A11 -6.5,16.5; A12 -5.5,16.5; A13 -4.5,16.5; A14 -3.5,16.5; A15 -2.5,16.5; A16 -1.5,16.5; A17 -0.5,16.5; A18 0.5,16.5; A19 1.5,16.5; A20 2.5,16.5; A21 3.5,16.5; A22 4.5,16.5; A23 5.5,16.5; A24 6.5,16.5; A25 7.5,16.5; A26 8.5,16.5; A27 9.5,16.5; A28 10.5,16.5; A29 11.5,16.5; A30 12.5,16.5; A31 13.5,16.5; A32 14.5,16.5; A33 15.5,16.5; AA1 -16.5,-3.5; AA2 -15.5,-3.5; AA3 -14.5,-3.5; AA4 -13.5,-3.5; AA5 -12.5,-3.5; AA6 -11.5,-3.5; AA7 -10.5,-3.5; AA8 -9.5,-3.5; AA9 -8.5,-3.5; AA10 -7.5,-3.5; AA11 -6.5,-3.5; AA12 -5.5,-3.5; AA13 -4.5,-3.5; AA15 -2.5,-3.5; AA16 -1.5,-3.5; AA17 -0.5,-3.5; AA18 0.5,-3.5; AA19 1.5,-3.5; AA20 2.5,-3.5; AA22 4.5,-3.5; AA23 5.5,-3.5; AA24 6.5,-3.5; AA25 7.5,-3.5; AA26 8.5,-3.5; AA27 9.5,-3.5; AA28 10.5,-3.5; AA29 11.5,-3.5; AA30 12.5,-3.5; AA31 13.5,-3.5; AA32 14.5,-3.5; AA33 15.5,-3.5; AA34 16.5,-3.5; AB1 -16.5,-4.5; AB2 -15.5,-4.5; AB3 -14.5,-4.5; AB4 -13.5,-4.5; AB5 -12.5,-4.5; AB6 -11.5,-4.5; AB7 -10.5,-4.5; AB8 -9.5,-4.5; AB9 -8.5,-4.5; AB10 -7.5,-4.5; AB11 -6.5,-4.5; AB12 -5.5,-4.5; AB13 -4.5,-4.5; AB14 -3.5,-4.5; AB15 -2.5,-4.5; AB16 -1.5,-4.5; AB17 -0.5,-4.5; AB18 0.5,-4.5; AB19 1.5,-4.5; AB20 2.5,-4.5; AB21 3.5,-4.5; AB22 4.5,-4.5; AB23 5.5,-4.5; AB24 6.5,-4.5; AB25 7.5,-4.5; AB26 8.5,-4.5; AB27 9.5,-4.5; AB28 10.5,-4.5; AB29 11.5,-4.5; AB30 12.5,-4.5; AB31 13.5,-4.5; AB32 14.5,-4.5; AB33 15.5,-4.5; AB34 16.5,-4.5; AC1 -16.5,-5.5; AC2 -15.5,-5.5; AC3 -14.5,-5.5; AC4 -13.5,-5.5; AC5 -12.5,-5.5; AC6 -11.5,-5.5; AC7 -10.5,-5.5; AC8 -9.5,-5.5; AC9 -8.5,-5.5; AC10 -7.5,-5.5; AC11 -6.5,-5.5; AC12 -5.5,-5.5; AC13 -4.5,-5.5; AC14 -3.5,-5.5; AC15 -2.5,-5.5; AC16 -1.5,-5.5; AC17 -0.5,-5.5; AC18 0.5,-5.5; AC19 1.5,-5.5; AC20 2.5,-5.5; AC21 3.5,-5.5; AC22 4.5,-5.5; AC23 5.5,-5.5; AC24 6.5,-5.5; AC25 7.5,-5.5; AC26 8.5,-5.5; AC27 9.5,-5.5; AC28 10.5,-5.5; AC29 11.5,-5.5; AC30 12.5,-5.5; AC31 13.5,-5.5; AC32 14.5,-5.5; AC33 15.5,-5.5; AC34 16.5,-5.5; AD1 -16.5,-6.5; AD2 -15.5,-6.5; AD3 -14.5,-6.5; AD4 -13.5,-6.5; AD5 -12.5,-6.5; AD6 -11.5,-6.5; AD7 -10.5,-6.5; AD8 -9.5,-6.5; AD9 -8.5,-6.5; AD10 -7.5,-6.5; AD11 -6.5,-6.5; AD12 -5.5,-6.5; AD13 -4.5,-6.5; AD14 -3.5,-6.5; AD15 -2.5,-6.5; AD16 -1.5,-6.5; AD17 -0.5,-6.5; AD18 0.5,-6.5; AD19 1.5,-6.5; AD20 2.5,-6.5; AD21 3.5,-6.5; AD22 4.5,-6.5; AD23 5.5,-6.5; AD24 6.5,-6.5; AD25 7.5,-6.5; AD26 8.5,-6.5; AD27 9.5,-6.5; AD28 10.5,-6.5; AD29 11.5,-6.5; AD30 12.5,-6.5; AD31 13.5,-6.5; AD32 14.5,-6.5; AD33 15.5,-6.5; AD34 16.5,-6.5; AE1 -16.5,-7.5; AE2 -15.5,-7.5; AE3 -14.5,-7.5; AE4 -13.5,-7.5; AE5 -12.5,-7.5; AE6 -11.5,-7.5; AE7 -10.5,-7.5; AE8 -9.5,-7.5; AE9 -8.5,-7.5; AE10 -7.5,-7.5; AE11 -6.5,-7.5; AE12 -5.5,-7.5; AE13 -4.5,-7.5; AE14 -3.5,-7.5; AE15 -2.5,-7.5; AE16 -1.5,-7.5; AE17 -0.5,-7.5; AE18 0.5,-7.5; AE19 1.5,-7.5; AE20 2.5,-7.5; AE21 3.5,-7.5; AE22 4.5,-7.5; AE23 5.5,-7.5; AE24 6.5,-7.5; AE25 7.5,-7.5; AE26 8.5,-7.5; AE27 9.5,-7.5; AE28 10.5,-7.5; AE29 11.5,-7.5; AE30 12.5,-7.5; AE31 13.5,-7.5; AE32 14.5,-7.5; AE33 15.5,-7.5; AE34 16.5,-7.5; AF1 -16.5,-8.5; AF2 -15.5,-8.5; AF3 -14.5,-8.5; AF4 -13.5,-8.5; AF5 -12.5,-8.5; AF6 -11.5,-8.5; AF7 -10.5,-8.5; AF8 -9.5,-8.5; AF9 -8.5,-8.5; AF10 -7.5,-8.5; AF11 -6.5,-8.5; AF12 -5.5,-8.5; AF13 -4.5,-8.5; AF14 -3.5,-8.5; AF15 -2.5,-8.5; AF16 -1.5,-8.5; AF17 -0.5,-8.5; AF18 0.5,-8.5; AF19 1.5,-8.5; AF20 2.5,-8.5; AF21 3.5,-8.5; AF22 4.5,-8.5; AF23 5.5,-8.5; AF24 6.5,-8.5; AF25 7.5,-8.5; AF26 8.5,-8.5; AF27 9.5,-8.5; AF28 10.5,-8.5; AF29 11.5,-8.5; AF30 12.5,-8.5; AF31 13.5,-8.5; AF32 14.5,-8.5; AF33 15.5,-8.5; AF34 16.5,-8.5; AG1 -16.5,-9.5; AG2 -15.5,-9.5; AG3 -14.5,-9.5; AG4 -13.5,-9.5; AG5 -12.5,-9.5; AG6 -11.5,-9.5; AG7 -10.5,-9.5; AG8 -9.5,-9.5; AG9 -8.5,-9.5; AG10 -7.5,-9.5; AG11 -6.5,-9.5; AG12 -5.5,-9.5; AG13 -4.5,-9.5; AG14 -3.5,-9.5; AG15 -2.5,-9.5; AG16 -1.5,-9.5; AG17 -0.5,-9.5; AG18 0.5,-9.5; AG19 1.5,-9.5; AG20 2.5,-9.5; AG21 3.5,-9.5; AG22 4.5,-9.5; AG23 5.5,-9.5; AG24 6.5,-9.5; AG25 7.5,-9.5; AG26 8.5,-9.5; AG27 9.5,-9.5; AG28 10.5,-9.5; AG29 11.5,-9.5; AG30 12.5,-9.5; AG31 13.5,-9.5; AG32 14.5,-9.5; AG33 15.5,-9.5; AG34 16.5,-9.5; AH1 -16.5,-10.5; AH2 -15.5,-10.5; AH3 -14.5,-10.5; AH4 -13.5,-10.5; AH5 -12.5,-10.5; AH6 -11.5,-10.5; AH7 -10.5,-10.5; AH8 -9.5,-10.5; AH9 -8.5,-10.5; AH10 -7.5,-10.5; AH11 -6.5,-10.5; AH12 -5.5,-10.5; AH13 -4.5,-10.5; AH14 -3.5,-10.5; AH15 -2.5,-10.5; AH16 -1.5,-10.5; AH17 -0.5,-10.5; AH18 0.5,-10.5; AH19 1.5,-10.5; AH20 2.5,-10.5; AH21 3.5,-10.5; AH22 4.5,-10.5; AH23 5.5,-10.5; AH24 6.5,-10.5; AH25 7.5,-10.5; AH26 8.5,-10.5; AH27 9.5,-10.5; AH28 10.5,-10.5; AH29 11.5,-10.5; AH30 12.5,-10.5; AH31 13.5,-10.5; AH32 14.5,-10.5; AH33 15.5,-10.5; AH34 16.5,-10.5; AJ1 -16.5,-11.5; AJ2 -15.5,-11.5; AJ3 -14.5,-11.5; AJ4 -13.5,-11.5; AJ5 -12.5,-11.5; AJ6 -11.5,-11.5; AJ7 -10.5,-11.5; AJ8 -9.5,-11.5; AJ9 -8.5,-11.5; AJ10 -7.5,-11.5; AJ11 -6.5,-11.5; AJ12 -5.5,-11.5; AJ13 -4.5,-11.5; AJ14 -3.5,-11.5; AJ15 -2.5,-11.5; AJ16 -1.5,-11.5; AJ17 -0.5,-11.5; AJ18 0.5,-11.5; AJ19 1.5,-11.5; AJ20 2.5,-11.5; AJ21 3.5,-11.5; AJ22 4.5,-11.5; AJ23 5.5,-11.5; AJ24 6.5,-11.5; AJ25 7.5,-11.5; AJ26 8.5,-11.5; AJ27 9.5,-11.5; AJ28 10.5,-11.5; AJ29 11.5,-11.5; AJ30 12.5,-11.5; AJ31 13.5,-11.5; AJ32 14.5,-11.5; AJ33 15.5,-11.5; AJ34 16.5,-11.5; AK1 -16.5,-12.5; AK2 -15.5,-12.5; AK3 -14.5,-12.5; AK4 -13.5,-12.5; AK5 -12.5,-12.5; AK6 -11.5,-12.5; AK7 -10.5,-12.5; AK8 -9.5,-12.5; AK9 -8.5,-12.5; AK10 -7.5,-12.5; AK11 -6.5,-12.5; AK12 -5.5,-12.5; AK13 -4.5,-12.5; AK14 -3.5,-12.5; AK15 -2.5,-12.5; AK16 -1.5,-12.5; AK17 -0.5,-12.5; AK18 0.5,-12.5; AK19 1.5,-12.5; AK20 2.5,-12.5; AK21 3.5,-12.5; AK22 4.5,-12.5; AK23 5.5,-12.5; AK24 6.5,-12.5; AK25 7.5,-12.5; AK26 8.5,-12.5; AK27 9.5,-12.5; AK28 10.5,-12.5; AK29 11.5,-12.5; AK30 12.5,-12.5; AK31 13.5,-12.5; AK32 14.5,-12.5; AK33 15.5,-12.5; AK34 16.5,-12.5; AL1 -16.5,-13.5; AL2 -15.5,-13.5; AL3 -14.5,-13.5; AL4 -13.5,-13.5; AL5 -12.5,-13.5; AL6 -11.5,-13.5; AL7 -10.5,-13.5; AL8 -9.5,-13.5; AL9 -8.5,-13.5; AL10 -7.5,-13.5; AL11 -6.5,-13.5; AL12 -5.5,-13.5; AL13 -4.5,-13.5; AL14 -3.5,-13.5; AL15 -2.5,-13.5; AL16 -1.5,-13.5; AL17 -0.5,-13.5; AL18 0.5,-13.5; AL19 1.5,-13.5; AL20 2.5,-13.5; AL21 3.5,-13.5; AL22 4.5,-13.5; AL23 5.5,-13.5; AL24 6.5,-13.5; AL25 7.5,-13.5; AL26 8.5,-13.5; AL27 9.5,-13.5; AL28 10.5,-13.5; AL29 11.5,-13.5; AL30 12.5,-13.5; AL31 13.5,-13.5; AL32 14.5,-13.5; AL33 15.5,-13.5; AL34 16.5,-13.5; AM1 -16.5,-14.5; AM2 -15.5,-14.5; AM3 -14.5,-14.5; AM4 -13.5,-14.5; AM5 -12.5,-14.5; AM6 -11.5,-14.5; AM7 -10.5,-14.5; AM8 -9.5,-14.5; AM9 -8.5,-14.5; AM10 -7.5,-14.5; AM11 -6.5,-14.5; AM12 -5.5,-14.5; AM13 -4.5,-14.5; AM14 -3.5,-14.5; AM15 -2.5,-14.5; AM16 -1.5,-14.5; AM17 -0.5,-14.5; AM18 0.5,-14.5; AM19 1.5,-14.5; AM20 2.5,-14.5; AM21 3.5,-14.5; AM22 4.5,-14.5; AM23 5.5,-14.5; AM24 6.5,-14.5; AM25 7.5,-14.5; AM26 8.5,-14.5; AM27 9.5,-14.5; AM28 10.5,-14.5; AM29 11.5,-14.5; AM30 12.5,-14.5; AM31 13.5,-14.5; AM32 14.5,-14.5; AM33 15.5,-14.5; AM34 16.5,-14.5; AN1 -16.5,-15.5; AN2 -15.5,-15.5; AN3 -14.5,-15.5; AN4 -13.5,-15.5; AN5 -12.5,-15.5; AN6 -11.5,-15.5; AN7 -10.5,-15.5; AN8 -9.5,-15.5; AN9 -8.5,-15.5; AN10 -7.5,-15.5; AN11 -6.5,-15.5; AN12 -5.5,-15.5; AN13 -4.5,-15.5; AN14 -3.5,-15.5; AN15 -2.5,-15.5; AN16 -1.5,-15.5; AN17 -0.5,-15.5; AN18 0.5,-15.5; AN19 1.5,-15.5; AN20 2.5,-15.5; AN21 3.5,-15.5; AN22 4.5,-15.5; AN23 5.5,-15.5; AN24 6.5,-15.5; AN25 7.5,-15.5; AN26 8.5,-15.5; AN27 9.5,-15.5; AN28 10.5,-15.5; AN29 11.5,-15.5; AN30 12.5,-15.5; AN31 13.5,-15.5; AN32 14.5,-15.5; AN33 15.5,-15.5; AN34 16.5,-15.5; AP2 -15.5,-16.5; AP3 -14.5,-16.5; AP4 -13.5,-16.5; AP5 -12.5,-16.5; AP6 -11.5,-16.5; AP7 -10.5,-16.5; AP8 -9.5,-16.5; AP9 -8.5,-16.5; AP10 -7.5,-16.5; AP11 -6.5,-16.5; AP12 -5.5,-16.5; AP13 -4.5,-16.5; AP14 -3.5,-16.5; AP15 -2.5,-16.5; AP16 -1.5,-16.5; AP17 -0.5,-16.5; AP18 0.5,-16.5; AP19 1.5,-16.5; AP20 2.5,-16.5; AP21 3.5,-16.5; AP22 4.5,-16.5; AP23 5.5,-16.5; AP24 6.5,-16.5; AP25 7.5,-16.5; AP26 8.5,-16.5; AP27 9.5,-16.5; AP28 10.5,-16.5; AP29 11.5,-16.5; AP30 12.5,-16.5; AP31 13.5,-16.5; AP32 14.5,-16.5; AP33 15.5,-16.5; B1 -16.5,15.5; B2 -15.5,15.5; B3 -14.5,15.5; B4 -13.5,15.5; B5 -12.5,15.5; B6 -11.5,15.5; B7 -10.5,15.5; B8 -9.5,15.5; B9 -8.5,15.5; B10 -7.5,15.5; B11 -6.5,15.5; B12 -5.5,15.5; B13 -4.5,15.5; B14 -3.5,15.5; B15 -2.5,15.5; B16 -1.5,15.5; B17 -0.5,15.5; B18 0.5,15.5; B19 1.5,15.5; B20 2.5,15.5; B21 3.5,15.5; B22 4.5,15.5; B23 5.5,15.5; B24 6.5,15.5; B25 7.5,15.5; B26 8.5,15.5; B27 9.5,15.5; B28 10.5,15.5; B29 11.5,15.5; B30 12.5,15.5; B31 13.5,15.5; B32 14.5,15.5; B33 15.5,15.5; B34 16.5,15.5; C1 -16.5,14.5; C2 -15.5,14.5; C3 -14.5,14.5; C4 -13.5,14.5; C5 -12.5,14.5; C6 -11.5,14.5; C7 -10.5,14.5; C8 -9.5,14.5; C9 -8.5,14.5; C10 -7.5,14.5; C11 -6.5,14.5; C12 -5.5,14.5; C13 -4.5,14.5; C14 -3.5,14.5; C15 -2.5,14.5; C16 -1.5,14.5; C17 -0.5,14.5; C18 0.5,14.5; C19 1.5,14.5; C20 2.5,14.5; C21 3.5,14.5; C22 4.5,14.5; C23 5.5,14.5; C24 6.5,14.5; C25 7.5,14.5; C26 8.5,14.5; C27 9.5,14.5; C28 10.5,14.5; C29 11.5,14.5; C30 12.5,14.5; C31 13.5,14.5; C32 14.5,14.5; C33 15.5,14.5; C34 16.5,14.5; D1 -16.5,13.5; D2 -15.5,13.5; D3 -14.5,13.5; D4 -13.5,13.5; D5 -12.5,13.5; D6 -11.5,13.5; D7 -10.5,13.5; D8 -9.5,13.5; D9 -8.5,13.5; D10 -7.5,13.5; D11 -6.5,13.5; D12 -5.5,13.5; D13 -4.5,13.5; D14 -3.5,13.5; D15 -2.5,13.5; D16 -1.5,13.5; D17 -0.5,13.5; D18 0.5,13.5; D19 1.5,13.5; D20 2.5,13.5; D21 3.5,13.5; D22 4.5,13.5; D23 5.5,13.5; D24 6.5,13.5; D25 7.5,13.5; D26 8.5,13.5; D27 9.5,13.5; D28 10.5,13.5; D29 11.5,13.5; D30 12.5,13.5; D31 13.5,13.5; D32 14.5,13.5; D33 15.5,13.5; D34 16.5,13.5; E1 -16.5,12.5; E2 -15.5,12.5; E3 -14.5,12.5; E4 -13.5,12.5; E5 -12.5,12.5; E6 -11.5,12.5; E7 -10.5,12.5; E8 -9.5,12.5; E9 -8.5,12.5; E10 -7.5,12.5; E11 -6.5,12.5; E12 -5.5,12.5; E13 -4.5,12.5; E14 -3.5,12.5; E15 -2.5,12.5; E16 -1.5,12.5; E17 -0.5,12.5; E18 0.5,12.5; E19 1.5,12.5; E20 2.5,12.5; E21 3.5,12.5; E22 4.5,12.5; E23 5.5,12.5; E24 6.5,12.5; E25 7.5,12.5; E26 8.5,12.5; E27 9.5,12.5; E28 10.5,12.5; E29 11.5,12.5; E30 12.5,12.5; E31 13.5,12.5; E32 14.5,12.5; E33 15.5,12.5; E34 16.5,12.5; F1 -16.5,11.5; F2 -15.5,11.5; F3 -14.5,11.5; F4 -13.5,11.5; F5 -12.5,11.5; F6 -11.5,11.5; F7 -10.5,11.5; F8 -9.5,11.5; F9 -8.5,11.5; F10 -7.5,11.5; F11 -6.5,11.5; F12 -5.5,11.5; F13 -4.5,11.5; F14 -3.5,11.5; F15 -2.5,11.5; F16 -1.5,11.5; F17 -0.5,11.5; F18 0.5,11.5; F19 1.5,11.5; F20 2.5,11.5; F21 3.5,11.5; F22 4.5,11.5; F23 5.5,11.5; F24 6.5,11.5; F25 7.5,11.5; F26 8.5,11.5; F27 9.5,11.5; F28 10.5,11.5; F29 11.5,11.5; F30 12.5,11.5; F31 13.5,11.5; F32 14.5,11.5; F33 15.5,11.5; F34 16.5,11.5; G1 -16.5,10.5; G2 -15.5,10.5; G3 -14.5,10.5; G4 -13.5,10.5; G5 -12.5,10.5; G6 -11.5,10.5; G7 -10.5,10.5; G8 -9.5,10.5; G9 -8.5,10.5; G10 -7.5,10.5; G11 -6.5,10.5; G12 -5.5,10.5; G13 -4.5,10.5; G14 -3.5,10.5; G15 -2.5,10.5; G16 -1.5,10.5; G17 -0.5,10.5; G18 0.5,10.5; G19 1.5,10.5; G20 2.5,10.5; G21 3.5,10.5; G22 4.5,10.5; G23 5.5,10.5; G24 6.5,10.5; G25 7.5,10.5; G26 8.5,10.5; G27 9.5,10.5; G28 10.5,10.5; G29 11.5,10.5; G30 12.5,10.5; G31 13.5,10.5; G32 14.5,10.5; G33 15.5,10.5; G34 16.5,10.5; H1 -16.5,9.5; H2 -15.5,9.5; H3 -14.5,9.5; H4 -13.5,9.5; H5 -12.5,9.5; H6 -11.5,9.5; H7 -10.5,9.5; H8 -9.5,9.5; H9 -8.5,9.5; H10 -7.5,9.5; H11 -6.5,9.5; H12 -5.5,9.5; H13 -4.5,9.5; H14 -3.5,9.5; H15 -2.5,9.5; H16 -1.5,9.5; H17 -0.5,9.5; H18 0.5,9.5; H19 1.5,9.5; H20 2.5,9.5; H21 3.5,9.5; H22 4.5,9.5; H23 5.5,9.5; H24 6.5,9.5; H25 7.5,9.5; H26 8.5,9.5; H27 9.5,9.5; H28 10.5,9.5; H29 11.5,9.5; H30 12.5,9.5; H31 13.5,9.5; H32 14.5,9.5; H33 15.5,9.5; H34 16.5,9.5; J1 -16.5,8.5; J2 -15.5,8.5; J3 -14.5,8.5; J4 -13.5,8.5; J5 -12.5,8.5; J6 -11.5,8.5; J7 -10.5,8.5; J8 -9.5,8.5; J9 -8.5,8.5; J10 -7.5,8.5; J11 -6.5,8.5; J12 -5.5,8.5; J13 -4.5,8.5; J14 -3.5,8.5; J15 -2.5,8.5; J16 -1.5,8.5; J17 -0.5,8.5; J18 0.5,8.5; J19 1.5,8.5; J20 2.5,8.5; J21 3.5,8.5; J22 4.5,8.5; J23 5.5,8.5; J24 6.5,8.5; J25 7.5,8.5; J26 8.5,8.5; J27 9.5,8.5; J28 10.5,8.5; J29 11.5,8.5; J30 12.5,8.5; J31 13.5,8.5; J32 14.5,8.5; J33 15.5,8.5; J34 16.5,8.5; K1 -16.5,7.5; K2 -15.5,7.5; K3 -14.5,7.5; K4 -13.5,7.5; K5 -12.5,7.5; K6 -11.5,7.5; K7 -10.5,7.5; K8 -9.5,7.5; K9 -8.5,7.5; K10 -7.5,7.5; K11 -6.5,7.5; K12 -5.5,7.5; K13 -4.5,7.5; K14 -3.5,7.5; K15 -2.5,7.5; K16 -1.5,7.5; K17 -0.5,7.5; K18 0.5,7.5; K19 1.5,7.5; K20 2.5,7.5; K21 3.5,7.5; K22 4.5,7.5; K23 5.5,7.5; K24 6.5,7.5; K25 7.5,7.5; K26 8.5,7.5; K27 9.5,7.5; K28 10.5,7.5; K29 11.5,7.5; K30 12.5,7.5; K31 13.5,7.5; K32 14.5,7.5; K33 15.5,7.5; K34 16.5,7.5; L1 -16.5,6.5; L2 -15.5,6.5; L3 -14.5,6.5; L4 -13.5,6.5; L5 -12.5,6.5; L6 -11.5,6.5; L7 -10.5,6.5; L8 -9.5,6.5; L9 -8.5,6.5; L10 -7.5,6.5; L11 -6.5,6.5; L12 -5.5,6.5; L13 -4.5,6.5; L14 -3.5,6.5; L15 -2.5,6.5; L16 -1.5,6.5; L17 -0.5,6.5; L18 0.5,6.5; L19 1.5,6.5; L20 2.5,6.5; L21 3.5,6.5; L22 4.5,6.5; L23 5.5,6.5; L24 6.5,6.5; L25 7.5,6.5; L26 8.5,6.5; L27 9.5,6.5; L28 10.5,6.5; L29 11.5,6.5; L30 12.5,6.5; L31 13.5,6.5; L32 14.5,6.5; L33 15.5,6.5; L34 16.5,6.5; M1 -16.5,5.5; M2 -15.5,5.5; M3 -14.5,5.5; M4 -13.5,5.5; M5 -12.5,5.5; M6 -11.5,5.5; M7 -10.5,5.5; M8 -9.5,5.5; M9 -8.5,5.5; M10 -7.5,5.5; M11 -6.5,5.5; M12 -5.5,5.5; M13 -4.5,5.5; M14 -3.5,5.5; M15 -2.5,5.5; M16 -1.5,5.5; M17 -0.5,5.5; M18 0.5,5.5; M19 1.5,5.5; M20 2.5,5.5; M21 3.5,5.5; M22 4.5,5.5; M23 5.5,5.5; M24 6.5,5.5; M25 7.5,5.5; M26 8.5,5.5; M27 9.5,5.5; M28 10.5,5.5; M29 11.5,5.5; M30 12.5,5.5; M31 13.5,5.5; M32 14.5,5.5; M33 15.5,5.5; M34 16.5,5.5; N1 -16.5,4.5; N2 -15.5,4.5; N3 -14.5,4.5; N4 -13.5,4.5; N5 -12.5,4.5; N6 -11.5,4.5; N7 -10.5,4.5; N8 -9.5,4.5; N9 -8.5,4.5; N10 -7.5,4.5; N11 -6.5,4.5; N12 -5.5,4.5; N13 -4.5,4.5; N14 -3.5,4.5; N15 -2.5,4.5; N16 -1.5,4.5; N17 -0.5,4.5; N18 0.5,4.5; N19 1.5,4.5; N20 2.5,4.5; N21 3.5,4.5; N22 4.5,4.5; N23 5.5,4.5; N24 6.5,4.5; N25 7.5,4.5; N26 8.5,4.5; N27 9.5,4.5; N28 10.5,4.5; N29 11.5,4.5; N30 12.5,4.5; N31 13.5,4.5; N32 14.5,4.5; N33 15.5,4.5; N34 16.5,4.5; P1 -16.5,3.5; P2 -15.5,3.5; P3 -14.5,3.5; P4 -13.5,3.5; P5 -12.5,3.5; P6 -11.5,3.5; P7 -10.5,3.5; P8 -9.5,3.5; P9 -8.5,3.5; P10 -7.5,3.5; P11 -6.5,3.5; P12 -5.5,3.5; P13 -4.5,3.5; P15 -2.5,3.5; P16 -1.5,3.5; P17 -0.5,3.5; P18 0.5,3.5; P19 1.5,3.5; P20 2.5,3.5; P22 4.5,3.5; P23 5.5,3.5; P24 6.5,3.5; P25 7.5,3.5; P26 8.5,3.5; P27 9.5,3.5; P28 10.5,3.5; P29 11.5,3.5; P30 12.5,3.5; P31 13.5,3.5; P32 14.5,3.5; P33 15.5,3.5; P34 16.5,3.5; R1 -16.5,2.5; R2 -15.5,2.5; R3 -14.5,2.5; R4 -13.5,2.5; R5 -12.5,2.5; R6 -11.5,2.5; R7 -10.5,2.5; R8 -9.5,2.5; R9 -8.5,2.5; R10 -7.5,2.5; R11 -6.5,2.5; R12 -5.5,2.5; R13 -4.5,2.5; R14 -3.5,2.5; R15 -2.5,2.5; R16 -1.5,2.5; R17 -0.5,2.5; R18 0.5,2.5; R19 1.5,2.5; R20 2.5,2.5; R21 3.5,2.5; R22 4.5,2.5; R23 5.5,2.5; R24 6.5,2.5; R25 7.5,2.5; R26 8.5,2.5; R27 9.5,2.5; R28 10.5,2.5; R29 11.5,2.5; R30 12.5,2.5; R31 13.5,2.5; R32 14.5,2.5; R33 15.5,2.5; R34 16.5,2.5; T1 -16.5,1.5; T2 -15.5,1.5; T3 -14.5,1.5; T4 -13.5,1.5; T5 -12.5,1.5; T6 -11.5,1.5; T7 -10.5,1.5; T8 -9.5,1.5; T9 -8.5,1.5; T10 -7.5,1.5; T11 -6.5,1.5; T12 -5.5,1.5; T13 -4.5,1.5; T14 -3.5,1.5; T15 -2.5,1.5; T16 -1.5,1.5; T17 -0.5,1.5; T18 0.5,1.5; T19 1.5,1.5; T20 2.5,1.5; T21 3.5,1.5; T22 4.5,1.5; T23 5.5,1.5; T24 6.5,1.5; T25 7.5,1.5; T26 8.5,1.5; T27 9.5,1.5; T28 10.5,1.5; T29 11.5,1.5; T30 12.5,1.5; T31 13.5,1.5; T32 14.5,1.5; T33 15.5,1.5; T34 16.5,1.5; U1 -16.5,0.5; U2 -15.5,0.5; U3 -14.5,0.5; U4 -13.5,0.5; U5 -12.5,0.5; U6 -11.5,0.5; U7 -10.5,0.5; U8 -9.5,0.5; U9 -8.5,0.5; U10 -7.5,0.5; U11 -6.5,0.5; U12 -5.5,0.5; U13 -4.5,0.5; U14 -3.5,0.5; U15 -2.5,0.5; U16 -1.5,0.5; U17 -0.5,0.5; U18 0.5,0.5; U19 1.5,0.5; U20 2.5,0.5; U21 3.5,0.5; U22 4.5,0.5; U23 5.5,0.5; U24 6.5,0.5; U25 7.5,0.5; U26 8.5,0.5; U27 9.5,0.5; U28 10.5,0.5; U29 11.5,0.5; U30 12.5,0.5; U31 13.5,0.5; U32 14.5,0.5; U33 15.5,0.5; U34 16.5,0.5; V1 -16.5,-0.5; V2 -15.5,-0.5; V3 -14.5,-0.5; V4 -13.5,-0.5; V5 -12.5,-0.5; V6 -11.5,-0.5; V7 -10.5,-0.5; V8 -9.5,-0.5; V9 -8.5,-0.5; V10 -7.5,-0.5; V11 -6.5,-0.5; V12 -5.5,-0.5; V13 -4.5,-0.5; V14 -3.5,-0.5; V15 -2.5,-0.5; V16 -1.5,-0.5; V17 -0.5,-0.5; V18 0.5,-0.5; V19 1.5,-0.5; V20 2.5,-0.5; V21 3.5,-0.5; V22 4.5,-0.5; V23 5.5,-0.5; V24 6.5,-0.5; V25 7.5,-0.5; V26 8.5,-0.5; V27 9.5,-0.5; V28 10.5,-0.5; V29 11.5,-0.5; V30 12.5,-0.5; V31 13.5,-0.5; V32 14.5,-0.5; V33 15.5,-0.5; V34 16.5,-0.5; W1 -16.5,-1.5; W2 -15.5,-1.5; W3 -14.5,-1.5; W4 -13.5,-1.5; W5 -12.5,-1.5; W6 -11.5,-1.5; W7 -10.5,-1.5; W8 -9.5,-1.5; W9 -8.5,-1.5; W10 -7.5,-1.5; W11 -6.5,-1.5; W12 -5.5,-1.5; W13 -4.5,-1.5; W14 -3.5,-1.5; W15 -2.5,-1.5; W16 -1.5,-1.5; W17 -0.5,-1.5; W18 0.5,-1.5; W19 1.5,-1.5; W20 2.5,-1.5; W21 3.5,-1.5; W22 4.5,-1.5; W23 5.5,-1.5; W24 6.5,-1.5; W25 7.5,-1.5; W26 8.5,-1.5; W27 9.5,-1.5; W28 10.5,-1.5; W29 11.5,-1.5; W30 12.5,-1.5; W31 13.5,-1.5; W32 14.5,-1.5; W33 15.5,-1.5; W34 16.5,-1.5; Y1 -16.5,-2.5; Y2 -15.5,-2.5; Y3 -14.5,-2.5; Y4 -13.5,-2.5; Y5 -12.5,-2.5; Y6 -11.5,-2.5; Y7 -10.5,-2.5; Y8 -9.5,-2.5; Y9 -8.5,-2.5; Y10 -7.5,-2.5; Y11 -6.5,-2.5; Y12 -5.5,-2.5; Y13 -4.5,-2.5; Y14 -3.5,-2.5; Y15 -2.5,-2.5; Y16 -1.5,-2.5; Y17 -0.5,-2.5; Y18 0.5,-2.5; Y19 1.5,-2.5; Y20 2.5,-2.5; Y21 3.5,-2.5; Y22 4.5,-2.5; Y23 5.5,-2.5; Y24 6.5,-2.5; Y25 7.5,-2.5; Y26 8.5,-2.5; Y27 9.5,-2.5; Y28 10.5,-2.5; Y29 11.5,-2.5; Y30 12.5,-2.5; Y31 13.5,-2.5; Y32 14.5,-2.5; Y33 15.5,-2.5; Y34 16.5,-2.5